# Altium schematic symbol library WE-GF.SchLib: 64 symbols (part 2 of 2)
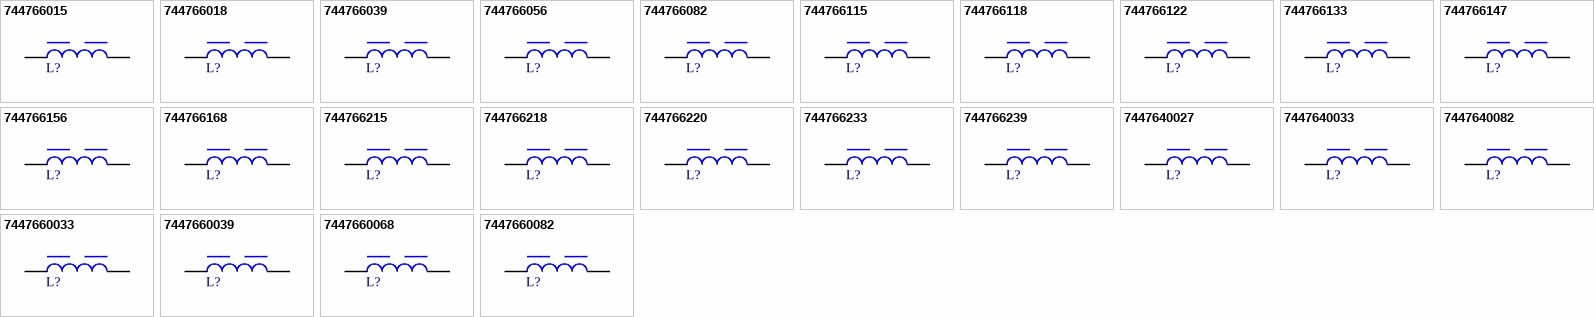
[diagram p2: symbols 744766015 to 7447660082]

## 7447640033
designator L?, comment 0.33µH, 450mA  (value not drawn)
WE-GF SMT Wire Wound Inductor, size 3225, 0.33µH, 450mA, 0.4Ω; Manufacturer Part Number: 7447640033; Manufacturer: Wurth Elektronik; Case/Size Code: 3225; Q Factor: 30; Self Resonant Frequency: 580MHz; Category: Unshielded Power Inductors; Match Code: WE-GF; ComponentLink1Description: Website Link; ComponentLink1URL: https://www.we-online.com/redexpert/article/7447640033?ad; ComponentLink2Description: Datasheet Link; ComponentLink2URL: https://www.we-online.com/redexpert/spec/7447640033?ad; Mount: Surface Mount; Operating Temperature Max: 105°C; Operating Temperature Min: -40°C; Packaging: Tape and Reel; Length: 3.2mm; Width: 2.5mm; Height: 2.2mm; DC Resistance Max: 0.4Ω; Inductance: 0.33µH; Rated Current: 450mA
footprint WE-GF_3225
simulation model 1210_7447640033_0.33u
pins: 1, 2

## 7447640082
designator L?, comment 0.82µH, 450mA  (value not drawn)
WE-GF SMT Wire Wound Inductor, size 3225, 0.82µH, 450mA, 0.65Ω; Manufacturer Part Number: 7447640082; Manufacturer: Wurth Elektronik; Case/Size Code: 3225; Q Factor: 30; Self Resonant Frequency: 370MHz; Category: Unshielded Power Inductors; Match Code: WE-GF; ComponentLink1Description: Website Link; ComponentLink1URL: https://www.we-online.com/redexpert/article/7447640082?ad; ComponentLink2Description: Datasheet Link; ComponentLink2URL: https://www.we-online.com/redexpert/spec/7447640082?ad; Mount: Surface Mount; Operating Temperature Max: 105°C; Operating Temperature Min: -40°C; Packaging: Tape and Reel; Length: 3.2mm; Width: 2.5mm; Height: 2.2mm; DC Resistance Max: 0.65Ω; Inductance: 0.82µH; Rated Current: 450mA
footprint WE-GF_3225
simulation model 1210_7447640082_0.82u
pins: 1, 2

## 7447660033
designator L?, comment 0.33µH, 450mA  (value not drawn)
WE-GF SMT Wire Wound Inductor, size 4532, 0.33µH, 450mA, 0.4Ω; Manufacturer Part Number: 7447660033; Manufacturer: Wurth Elektronik; Case/Size Code: 4532; Q Factor: 30; Self Resonant Frequency: 440MHz; Category: Unshielded Power Inductors; Match Code: WE-GF; ComponentLink1Description: Website Link; ComponentLink1URL: https://www.we-online.com/redexpert/article/7447660033?ad; ComponentLink2Description: Datasheet Link; ComponentLink2URL: https://www.we-online.com/redexpert/spec/7447660033?ad; Mount: Surface Mount; Operating Temperature Max: 105°C; Operating Temperature Min: -40°C; Packaging: Tape and Reel; Length: 4.5mm; Width: 3.2mm; Height: 3.2mm; DC Resistance Max: 0.4Ω; Inductance: 0.33µH; Rated Current: 450mA
footprint WE-GF_4532
simulation model 1812_7447660033_0.33u
pins: 1, 2

## 7447660039
designator L?, comment 0.39µH, 450mA  (value not drawn)
WE-GF SMT Wire Wound Inductor, size 4532, 0.39µH, 450mA, 0.45Ω; Manufacturer Part Number: 7447660039; Manufacturer: Wurth Elektronik; Case/Size Code: 4532; Q Factor: 30; Self Resonant Frequency: 390MHz; Category: Unshielded Power Inductors; Match Code: WE-GF; ComponentLink1Description: Website Link; ComponentLink1URL: https://www.we-online.com/redexpert/article/7447660039?ad; ComponentLink2Description: Datasheet Link; ComponentLink2URL: https://www.we-online.com/redexpert/spec/7447660039?ad; Mount: Surface Mount; Operating Temperature Max: 105°C; Operating Temperature Min: -40°C; Packaging: Tape and Reel; Length: 4.5mm; Width: 3.2mm; Height: 3.2mm; DC Resistance Max: 0.45Ω; Inductance: 0.39µH; Rated Current: 450mA
footprint WE-GF_4532
simulation model 1812_7447660039_0.39u
pins: 1, 2

## 7447660068
designator L?, comment 0.68µH, 450mA  (value not drawn)
WE-GF SMT Wire Wound Inductor, size 4532, 0.68µH, 450mA, 0.6Ω; Manufacturer Part Number: 7447660068; Manufacturer: Wurth Elektronik; Case/Size Code: 4532; Q Factor: 30; Self Resonant Frequency: 310MHz; Category: Unshielded Power Inductors; Match Code: WE-GF; ComponentLink1Description: Website Link; ComponentLink1URL: https://www.we-online.com/redexpert/article/7447660068?ad; ComponentLink2Description: Datasheet Link; ComponentLink2URL: https://www.we-online.com/redexpert/spec/7447660068?ad; Mount: Surface Mount; Operating Temperature Max: 105°C; Operating Temperature Min: -40°C; Packaging: Tape and Reel; Length: 4.5mm; Width: 3.2mm; Height: 3.2mm; DC Resistance Max: 0.6Ω; Inductance: 0.68µH; Rated Current: 450mA
footprint WE-GF_4532
simulation model 1812_7447660068_0.68u
pins: 1, 2

## 7447660082
designator L?, comment 0.82µH, 450mA  (value not drawn)
WE-GF SMT Wire Wound Inductor, size 4532, 0.82µH, 450mA, 0.67Ω; Manufacturer Part Number: 7447660082; Manufacturer: Wurth Elektronik; Case/Size Code: 4532; Q Factor: 30; Self Resonant Frequency: 300MHz; Category: Unshielded Power Inductors; Match Code: WE-GF; ComponentLink1Description: Website Link; ComponentLink1URL: https://www.we-online.com/redexpert/article/7447660082?ad; ComponentLink2Description: Datasheet Link; ComponentLink2URL: https://www.we-online.com/redexpert/spec/7447660082?ad; Mount: Surface Mount; Operating Temperature Max: 105°C; Operating Temperature Min: -40°C; Packaging: Tape and Reel; Length: 4.5mm; Width: 3.2mm; Height: 3.2mm; DC Resistance Max: 0.67Ω; Inductance: 0.82µH; Rated Current: 450mA
footprint WE-GF_4532
simulation model 1812_7447660082_0.82u
pins: 1, 2